# EAGLE library part IC74HC926 (library chuong)
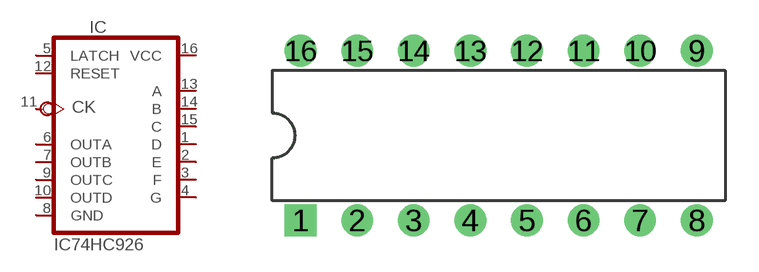
[diagram p46: symbol with the pads of DIL-16; footprint DIL-16]

Designator prefix IC

## IC74HC926  [DIL-16]
1  D  out
2  E  out
3  F  out
4  G  out
5  LATCH  in
6  OUTA  in
7  OUTB  in
8  GND  in
9  OUTC  in
10  OUTD  in
11  CK
12  RESET  in
13  A  out
14  B  out
15  C  out
16  VCC  in

## Footprint DIL-16 (pad centres in mm)
drill 0.61 pad 1.422 square: 1 -8.89,-3.81
drill 0.61 pad 1.422 round: 2 -6.35,-3.81; 3 -3.81,-3.81; 4 -1.27,-3.81; 5 1.27,-3.81; 6 3.81,-3.81; 7 6.35,-3.81; 8 8.89,-3.81; 9 8.89,3.81; 10 6.35,3.81; 11 3.81,3.81; 12 1.27,3.81; 13 -1.27,3.81; 14 -3.81,3.81; 15 -6.35,3.81; 16 -8.89,3.81